# EAGLE library part CHERRY_MX (library connectors)
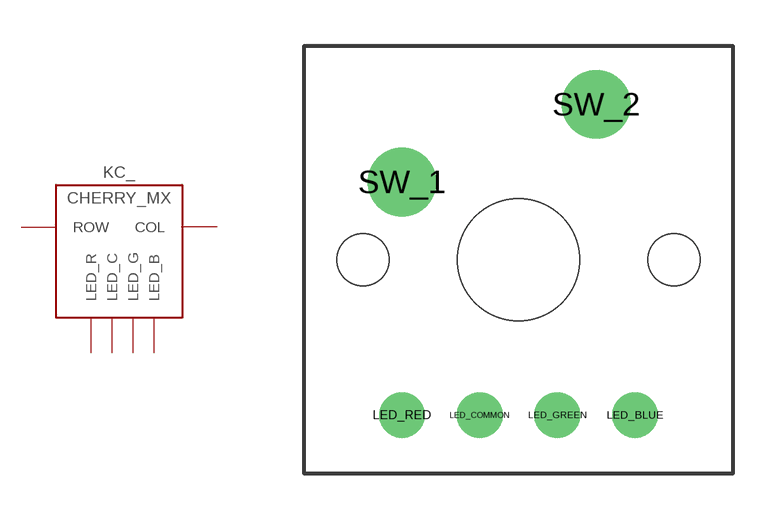
[diagram p7: symbol with the pads of MX_CHERRY_5PIN; footprint MX_CHERRY_5PIN]

Designator prefix KC_

## CHERRY_MX  [MX_CHERRY_5PIN]
LED_BLUE  LED_B
LED_COMMON  LED_C
LED_GREEN  LED_G
LED_RED  LED_R
SW_1  ROW
SW_2  COL

## Footprint MX_CHERRY_5PIN (pad centres in mm)
drill 0.991: LED_BLUE 3.81,-5.08; LED_COMMON -1.27,-5.08; LED_GREEN 1.27,-5.08; LED_RED -3.81,-5.08
drill 1.499: SW_1 -3.81,2.54; SW_2 2.54,5.08
hole 3.988 at 0,0
hole 1.702 at 5.08,0
hole 1.702 at -5.08,0